# Altium schematic symbol library TLV272DGK.Schlib: 1 symbol
Pins are listed as number, name and electrical type; pins without a type are passive.

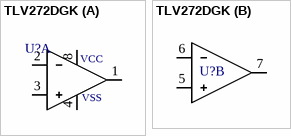
[diagram p0: symbol TLV272DGK]

## TLV272DGK
designator U?  (value not drawn)
TLV272DGK type, Dual Op Amp
part A pins: 1, 2, 3, 4, 8
part B pins: 5, 6, 7
part A text: VCC; VSS